# Altium schematic symbol library simbolos.SchLib: 5 symbols
Pins are listed as number, name and electrical type; pins without a type are passive.

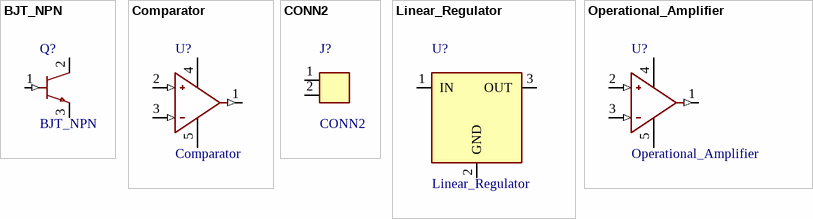
[diagram p0: symbols BJT_NPN to Operational_Amplifier]

## BJT_NPN
designator Q?
Conceptual NPN B/C/E; not a device pinout
pins: 1 B (in), 2 C, 3 E

## Comparator
designator U?
Conceptual comparator; not a device pinout
pins: 1 (out), 2 + (in), 3 - (in), 4 V+ (power), 5 V- (power)

## CONN2
designator J?
Two-pin connector, pins on the left. Fenolite example symbol
pins: 1, 2

## Linear_Regulator
designator U?
Conceptual three-function linear regulator; not a device pinout
pins: 1 IN (power), 2 GND (power), 3 OUT (power)

## Operational_Amplifier
designator U?
Conceptual five-function op amp; not a device pinout
pins: 1 (out), 2 + (in), 3 - (in), 4 V+ (power), 5 V- (power)